# Altium footprint library Switches.PcbLib: 32 footprints (part 2 of 2)
Each footprint in its own frame and in the unit in brackets; x right, y up, seen from the top. Pads: shape width x height; smd on the part's side, far side on the other; paste and mask are expansions set on the pad; w line width, h text height; cw(c..) or ccw(c..) is an arc to the next point about the centre after c.
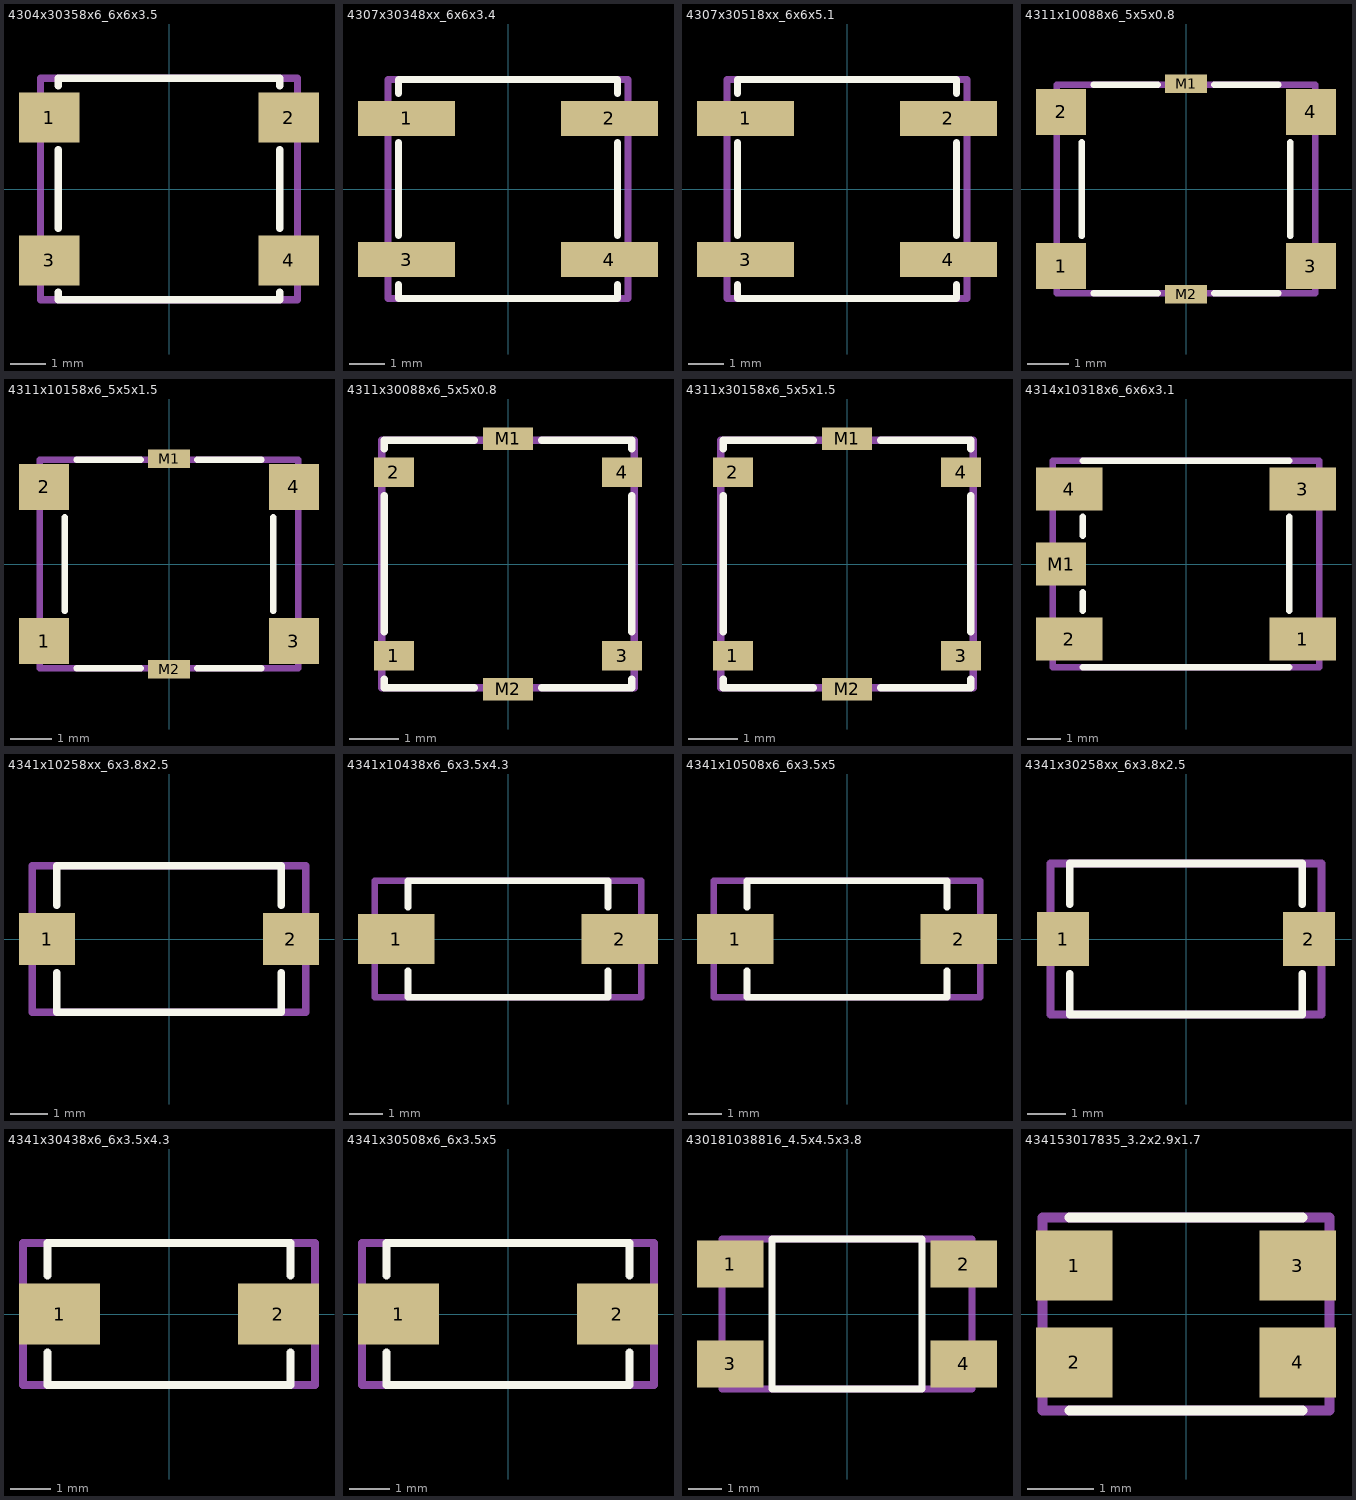
[diagram p1: the footprints below, top view; thin cyan lines are the x and y axes]

## 4304x30358x6_6x6x3.5 [mm] "6x6mm washable Tact Switch, J-Bend SMD version"
height 3.5
pads (4):
  rect 1.7x1.4 smd: 1(-3.35,2) 2(3.35,2) 3(-3.35,-2) 4(3.35,-2)
Top Overlay:
  lines w0.2: -3.1,-2.89 -3.1,-3.1 3.1,-3.1 3.1,-2.89 ; -3.1,-1.1 -3.1,1.1 ; -3.1,2.89 -3.1,3.1 3.1,3.1 3.1,2.89 ; 3.1,-1.1 3.1,1.1
Mechanical 13:
  lines w0.2: -3.6,-3.1 -3.6,3.1 3.6,3.1 3.6,-3.1 -3.6,-3.1
3D body: height 3.52, standoff 0.02, extent -3.6,-3.1 3.6,3.1

## 4307x30348xx_6x6x3.4 [mm] "6x6 mm J-Hook SMD Hermetic Tact Switch"
height 3.4
pads (4):
  rect 2.75x1 smd: 1(-2.875,2) 2(2.875,2) 3(-2.875,-2) 4(2.875,-2)
Top Overlay:
  lines w0.2: -3.1,-2.7 -3.1,-3.1 3.1,-3.1 3.1,-2.7 ; -3.1,-1.31 -3.1,1.31 ; -3.1,2.7 -3.1,3.1 3.1,3.1 3.1,2.7 ; 3.1,-1.31 3.1,1.31
Mechanical 13:
  lines w0.2: -3.4,-3.1 3.4,-3.1 3.4,3.1 -3.4,3.1 -3.4,-3.1
3D body: height 3.4, standoff 0, extent -3.4,-3.1 3.4,3.1

## 4307x30518xx_6x6x5.1 [mm] "6x6 mm J-Hook SMD Hermetic Tact Switch"
height 5.1
pads (4):
  rect 2.75x1 smd: 1(-2.875,2) 2(2.875,2) 3(-2.875,-2) 4(2.875,-2)
Top Overlay:
  lines w0.2: -3.1,-2.7 -3.1,-3.1 3.1,-3.1 3.1,-2.7 ; -3.1,-1.31 -3.1,1.31 ; -3.1,2.7 -3.1,3.1 3.1,3.1 3.1,2.7 ; 3.1,-1.31 3.1,1.31
Mechanical 13:
  lines w0.2: -3.4,-3.1 3.4,-3.1 3.4,3.1 -3.4,3.1 -3.4,-3.1
3D body: height 5.1, standoff 0, extent -3.4,-3.1 3.4,3.1

## 4311x10088x6_5x5x0.8 [mm] "5x5mm Tact Switch with ground terminal, SMD version"
height 0.8
pads (6):
  rect 1.2x1.1 smd: 1(-3,-1.85) 2(-3,1.85) 3(3,-1.85) 4(3,1.85)
  rect 1x0.45 smd: M1(0,2.525) M2(0,-2.525)
Top Overlay:
  lines w0.15: -2.5,-1.13 -2.5,1.12 ; -2.22,-2.5 -0.68,-2.5 ; -2.22,2.5 -0.68,2.5 ; 0.68,-2.5 2.22,-2.5 ; 0.68,2.5 2.22,2.5 ; 2.5,-1.13 2.5,1.12
Mechanical 13:
  lines w0.15: -3.1,-2.5 -3.1,2.5 3.1,2.5 3.1,-2.5 -3.1,-2.5
3D body: height 0.82, standoff 0.02, extent -3.1,-2.5 3.1,2.5

## 4311x10158x6_5x5x1.5 [mm] "5x5mm Tact Switch with ground terminal, SMD version"
height 1.5
pads (6):
  rect 1.2x1.1 smd: 1(-3,-1.85) 2(-3,1.85) 3(3,-1.85) 4(3,1.85)
  rect 1x0.45 smd: M1(0,2.525) M2(0,-2.525)
Top Overlay:
  lines w0.15: -2.5,-1.13 -2.5,1.12 ; -2.22,-2.5 -0.68,-2.5 ; -2.22,2.5 -0.68,2.5 ; 0.68,-2.5 2.22,-2.5 ; 0.68,2.5 2.22,2.5 ; 2.5,-1.13 2.5,1.12
Mechanical 13:
  lines w0.15: -3.1,-2.5 -3.1,2.5 3.1,2.5 3.1,-2.5 -3.1,-2.5
3D body: height 1.52, standoff 0.02, extent -3.1,-2.5 3.1,2.5

## 4311x30088x6_5x5x0.8 [mm] "5x5mm Tact Switch with ground terminal, J-Bend SMD version"
height 0.8
pads (6):
  rect 0.8x0.6 smd: 1(-2.3,-1.85) 2(-2.3,1.85) 3(2.3,-1.85) 4(2.3,1.85)
  rect 1x0.45 smd: M1(0,2.525) M2(0,-2.525)
Top Overlay:
  lines w0.15: -2.5,-2.32 -2.5,-2.5 -0.68,-2.5 ; -2.5,-1.37 -2.5,1.38 ; -2.5,2.32 -2.5,2.5 -0.68,2.5 ; 0.68,-2.5 2.5,-2.5 2.5,-2.32 ; 0.68,2.5 2.5,2.5 2.5,2.32 ; 2.5,-1.37 2.5,1.38
Mechanical 13:
  lines w0.15: -2.55,-2.5 -2.55,2.5 2.55,2.5 2.55,-2.5 -2.55,-2.5
3D body: height 0.82, standoff 0.02, extent -2.55,-2.5 2.55,2.5

## 4311x30158x6_5x5x1.5 [mm] "5x5mm Tact Switch with ground terminal, J-Bend SMD version"
height 1.5
pads (6):
  rect 0.8x0.6 smd: 1(-2.3,-1.85) 2(-2.3,1.85) 3(2.3,-1.85) 4(2.3,1.85)
  rect 1x0.45 smd: M1(0,2.525) M2(0,-2.525)
Top Overlay:
  lines w0.15: -2.5,-2.32 -2.5,-2.5 -0.68,-2.5 ; -2.5,-1.37 -2.5,1.38 ; -2.5,2.32 -2.5,2.5 -0.68,2.5 ; 0.68,-2.5 2.5,-2.5 2.5,-2.32 ; 0.68,2.5 2.5,2.5 2.5,2.32 ; 2.5,-1.37 2.5,1.38
Mechanical 13:
  lines w0.15: -2.55,-2.5 -2.55,2.5 2.55,2.5 2.55,-2.5 -2.55,-2.5
3D body: height 1.52, standoff 0.02, extent -2.55,-2.5 2.55,2.5

## 4314x10318x6_6x6x3.1 [mm] "6x6mm washable Tact Switch with ground terminal, SMD version"
height 3.1
pads (5):
  rect 2x1.3 smd: 1(3.5,-2.25) 2(-3.5,-2.25) 3(3.5,2.25) 4(-3.5,2.25)
  rect 1.5x1.3 smd: M1(-3.75,0)
Top Overlay:
  lines w0.2: -3.1,-3.1 3.1,-3.1 ; -3.1,-1.4 -3.1,-0.85 ; -3.1,0.85 -3.1,1.41 ; -3.1,3.1 3.1,3.1 ; 3.1,-1.4 3.1,1.41
Mechanical 13:
  lines w0.2: -4,-3.1 -4,3.1 4,3.1 4,-3.1 -4,-3.1
3D body: height 3.12, standoff 0.02, extent -4,-3.1 4,3.1

## 4341x10258xx_6x3.8x2.5 [mm] "6.0x3.8mm Tact Switch SMD version"
height 2.5
pads (2):
  rect 1.5x1.4 smd: 1(-3.25,0) 2(3.25,0)
Top Overlay:
  lines w0.2: -3,-0.9 -3,-1.95 3,-1.95 3,-0.9 ; -3,0.9 -3,1.95 3,1.95 3,0.9
Mechanical 13:
  lines w0.2: -3.65,-1.95 3.65,-1.95 3.65,1.95 -3.65,1.95 -3.65,-1.95
3D body: height 2.52, standoff 0.02, extent -3.65,-1.95 3.65,1.95

## 4341x10438x6_6x3.5x4.3 [mm] "6.0x3.5mm Tact Switch SMD version"
height 4.3
pads (2):
  rect 2.3x1.5 smd: 1(-3.35,0) 2(3.35,0)
Top Overlay:
  lines w0.2: -3,-0.95 -3,-1.75 3,-1.75 3,-0.95 ; -3,0.95 -3,1.75 3,1.75 3,0.95
Mechanical 13:
  lines w0.2: -4,-1.75 4,-1.75 4,1.75 -4,1.75 -4,-1.75
3D body: height 4.32, standoff 0.02, extent -4,-1.75 4,1.75

## 4341x10508x6_6x3.5x5 [mm] "6.0x3.5mm Tact Switch SMD version"
height 5
pads (2):
  rect 2.3x1.5 smd: 1(-3.35,0) 2(3.35,0)
Top Overlay:
  lines w0.2: -3,-0.95 -3,-1.75 3,-1.75 3,-0.95 ; -3,0.95 -3,1.75 3,1.75 3,0.95
Mechanical 13:
  lines w0.2: -4,-1.75 -4,1.75 4,1.75 4,-1.75 -4,-1.75
3D body: height 5.02, standoff 0.02, extent -4,-1.75 4,1.75

## 4341x30258xx_6x3.8x2.5 [mm] "6.0x3.8mm Tact Switch J-Bend SMD version"
height 2.5
pads (2):
  rect 1.35x1.4 smd: 1(-3.175,0) 2(3.175,0)
Top Overlay:
  lines w0.2: -3,-0.9 -3,-1.95 3,-1.95 3,-0.9 ; -3,0.9 -3,1.95 3,1.95 3,0.9
Mechanical 13:
  lines w0.2: -3.5,-1.95 3.5,-1.95 3.5,1.95 -3.5,1.95 -3.5,-1.95
3D body: height 2.52, standoff 0.02, extent -3.5,-1.95 3.5,1.95

## 4341x30438x6_6x3.5x4.3 [mm] "6.0x3.5mm Tact Switch J-Bend SMD version"
height 4.3
pads (2):
  rect 2x1.5 smd: 1(-2.7,0) 2(2.7,0)
Top Overlay:
  lines w0.2: -3,-0.95 -3,-1.75 3,-1.75 3,-0.95 ; -3,0.95 -3,1.75 3,1.75 3,0.95
Mechanical 13:
  lines w0.2: -3.6,-1.75 -3.6,1.75 3.6,1.75 3.6,-1.75 -3.6,-1.75
3D body: height 4.32, standoff 0.02, extent -3.649,-1.75 3.65,1.75

## 4341x30508x6_6x3.5x5 [mm] "6.0x3.5mm Tact Switch J-Bend SMD version"
height 5
pads (2):
  rect 2x1.5 smd: 1(-2.7,0) 2(2.7,0)
Top Overlay:
  lines w0.2: -3,-0.95 -3,-1.75 3,-1.75 3,-0.95 ; -3,0.95 -3,1.75 3,1.75 3,0.95
Mechanical 13:
  lines w0.2: -3.6,-1.75 -3.6,1.75 3.6,1.75 3.6,-1.75 -3.6,-1.75
3D body: height 5.02, standoff 0.02, extent -3.599,-1.75 3.6,1.75

## 430181038816_4.5x4.5x3.8 [mm] "4.5x4.5mm Tact Switch, SMD version"
height 3.8
pads (4):
  rect 2x1.4 smd: 1(-3.5,1.5) 2(3.5,1.5) 3(-3.5,-1.5) 4(3.5,-1.5)
Top Overlay:
  lines w0.2: -2.25,-2.25 -2.25,2.25 2.25,2.25 2.25,-2.25 -2.25,-2.25
Mechanical 13:
  lines w0.2: -3.75,-2.25 -3.75,2.25 3.75,2.25 3.75,-2.25 -3.75,-2.25
3D body: height 3.83, standoff 0.03, extent -3.75,-2.25 3.75,2.25

## 434153017835_3.2x2.9x1.7 [mm] "3.5x2.9 mm Tact Switch J-Bend SMD version"
height 1.7
pads (4):
  rect 1.15x1.05 smd: 1(-1.675,0.725) 2(-1.675,-0.725) 3(1.675,0.725) 4(1.675,-0.725)
Top Overlay:
  lines w0.15: -1.75,-1.45 1.75,-1.45 ; -1.75,1.45 1.75,1.45
Mechanical 13:
  lines w0.15: -2.15,-1.45 2.15,-1.45 2.15,1.45 -2.15,1.45 -2.15,-1.45
3D body: height 1.72, standoff 0.02, extent -2.147,-1.45 2.147,1.45